# Altium schematic symbol library Header_1x8.SchLib: 1 symbol
Pins are listed as number, name and electrical type; pins without a type are passive.

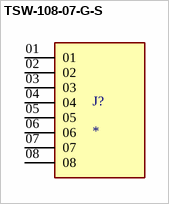
[diagram p0: symbol TSW-108-07-G-S]

## TSW-108-07-G-S
designator J?
MP: TSW-108-07-G-S; MF: Samtec; Availability: Unavailable; Package: None; Value: *; Price: None
footprint SAMTEC_TSW-108-07-G-S
pins: 01, 02, 03, 04, 05, 06, 07, 08